# EAGLE library part VIA_15 (library myFab)
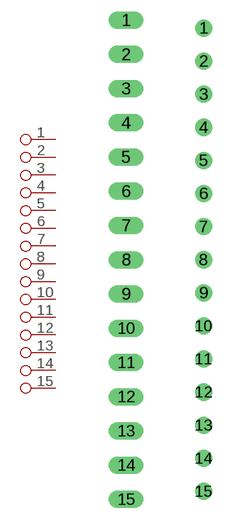
[diagram p30: symbol with the pads of VIA_15_ELLIPTICAL; footprints VIA_15_ELLIPTICAL, VIA_15_CIRCULAR]

Designator prefix -

## VIA_15ELLIPTICAL  [VIA_15_ELLIPTICAL]
1  1
2  2
3  3
4  4
5  5
6  6
7  7
8  8
9  9
10  10
11  11
12  12
13  13
14  14
15  15

## VIA_15CIRCULAR  [VIA_15_CIRCULAR]
Pads as for VIA_15_ELLIPTICAL

## Footprint VIA_15_ELLIPTICAL (pad centres in mm)
drill 0.8 long: 1 0,0; 2 0,-2.54; 3 0,-5.08; 4 0,-7.62; 5 0,-10.16; 6 0,-12.7; 7 0,-15.24; 8 0,-17.78; 9 0,-20.32; 10 0,-22.86; 11 0,-25.4; 12 0,-27.94; 13 0,-30.48; 14 0,-33.02; 15 0,-35.56

## Footprint VIA_15_CIRCULAR (pad centres in mm)
drill 0.8: 1 0,0; 2 0,-2.54; 3 0,-5.08; 4 0,-7.62; 5 0,-10.16; 6 0,-12.7; 7 0,-15.24; 8 0,-17.78; 9 0,-20.32; 10 0,-22.86; 11 0,-25.4; 12 0,-27.94; 13 0,-30.48; 14 0,-33.02; 15 0,-35.56